# Altium schematic symbol library Crystals.SchLib: 7 symbols
Pins are listed as number, name and electrical type; pins without a type are passive.

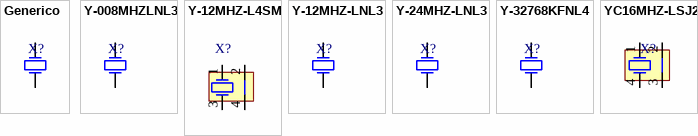
[diagram p0: symbols Generico to YC16MHZ-LSJ2]

## Generico
designator X?
Manufacturer Part Number: *; Working Temperature: *; Temperature Coefficient: *; Mounting: *; Short Description: *; Power: *; Ratings: *; Type: *; Frequency: *; Alternate Part Number 1: *; Alternate Part Number 2: *; Manufacturer: *; Tolerance: *; Current: *; Revision Date: *; Package Reference: *; Voltage: *; Value: *
pins: 1 OSC1, 2 OSC2

## Y-008MHZLNL3
designator X?
8 MHz ±20ppm Crystal 18pF 100 Ohms 2-SMD, No Lead; Manufacturer Part Number: F90800021; Manufacturer: Diodes Incorporated; Working Temperature: -40°C ~ 85°C; Temperature Coefficient: ±30ppm; Short Description: CRYSTAL 8.0000MHZ 18PF SMD; Power: NC; Ratings: ROHS, REACH; Value: 8M; Mounting: SMT; Type: MHz Crystal; Frequency: NC; Alternate Part Number 2: *; Tolerance: ±20ppm; Current: NC; Revision Date: 02/08/21; Package Reference: *; Voltage: NC
footprint XTAL1912
pins: 1 OSC1, 2 OSC2

## Y-12MHZ-L4SM
designator X?
±20ppm Crystal 18pF 4-SMD, No Lead; Manufacturer Part Number: ABM8G-12.000MHZ-18-D2Y-T; Manufacturer: Abracon LLC; Working Temperature: -40°C ~ 85°C; Temperature Coefficient: ±30ppm; Short Description: CRYSTAL 12.0000MHZ 18PF SMD; Power: NC; Ratings: ROHS; Value: 12M; Mounting: SMT; Type: MHz Crystal; Frequency: NC; Alternate Part Number 2: *; Tolerance: ±20ppm; Current: NC; Revision Date: 02/08/21; Package Reference: *; Voltage: NC
footprint XTAL1210
pins: 1 OSC1, 2 GND, 3 OSC2, 4 GND

## Y-12MHZ-LNL3
designator X?
±20ppm Crystal 18pF 2-SMD, No Lead; Manufacturer Part Number: ABM3-12.000MHZ-D2Y-T; Manufacturer: Abracon LLC; Working Temperature: -40°C ~ 85°C; Temperature Coefficient: ±30ppm; Short Description: CRYSTAL 12.0000MHZ 18PF SMD; Power: NC; Ratings: ROHS3; Value: 12M; Mounting: SMT; Type: MHz Crystal; Frequency: NC; Alternate Part Number 2: *; Tolerance: ±20ppm; Current: NC; Revision Date: 02/08/21; Package Reference: *; Voltage: NC
footprint XTAL1912
pins: 1 OSC1, 2 OSC2

## Y-24MHZ-LNL3
designator X?
±20ppm Crystal 18pF 2-SMD, No Lead; Manufacturer Part Number: ABM3-24.000MHZ-D2Y-T; Manufacturer: Abracon LLC; Working Temperature: -40°C ~ 85°C; Temperature Coefficient: ±30ppm; Short Description: CRYSTAL 24.0000MHZ 18PF SMD; Power: NC; Ratings: ROHS3; Value: 24M; Mounting: SMT; Type: MHz Crystal; Frequency: NC; Alternate Part Number 2: *; Tolerance: ±20ppm; Current: NC; Revision Date: 02/08/21; Package Reference: *; Voltage: NC
footprint XTAL1912
pins: 1 OSC1, 2 OSC2

## Y-32768KFNL4
designator X?
±20ppm Crystal 12.5pF 2-SMD, No Lead; Manufacturer Part Number: ABS07-32.768KHZ-T; Manufacturer: Abracon LLC; Working Temperature: -40°C ~ 85°C; Temperature Coefficient: ND; Short Description: CRYSTAL 32.7680KHZ 12.5PF SMD; Power: NC; Ratings: ROHS, REACH; Value: 32.768k; Mounting: SMT; Type: kHz Crystal; Frequency: NC; Alternate Part Number 2: *; Tolerance: ±20ppm; Current: NC; Revision Date: 02/08/21; Package Reference: *; Voltage: NC
footprint XTAL1206
pins: 1 OSC1, 2 OSC2

## YC16MHZ-LSJ2
designator X?
16 MHz ±30ppm Crystal 18pF 50 Ohms 4-SOJ, 9.40mm pitch; Manufacturer Part Number: CM309S16.000MABJT; Manufacturer: Citizen Finedevice Co Ltd; Working Temperature: -10°C ~ 60°C; Temperature Coefficient: ±50ppm; Short Description: CRYSTAL 16.0000MHZ 18PF SMD; Power: NC; Ratings: REACH; Value: 16M; Mounting: SMT; Type: MHz Crystal; Frequency: NC; Alternate Part Number 2: *; Tolerance: ±30ppm; Current: NC; Revision Date: 02/08/21; Package Reference: *; Voltage: NC
footprint XTAL4817
pins: 1 OSC1, 2 GND, 3 GND, 4 OSC2